# Altium footprint library DIY_DAP_PCB_Library.PcbLib: 17 footprints (part 1 of 2)
Each footprint in its own frame and in the unit in brackets; x right, y up, seen from the top. Pads: shape width x height; smd on the part's side, far side on the other; paste and mask are expansions set on the pad; w line width, h text height; cw(c..) or ccw(c..) is an arc to the next point about the centre after c.
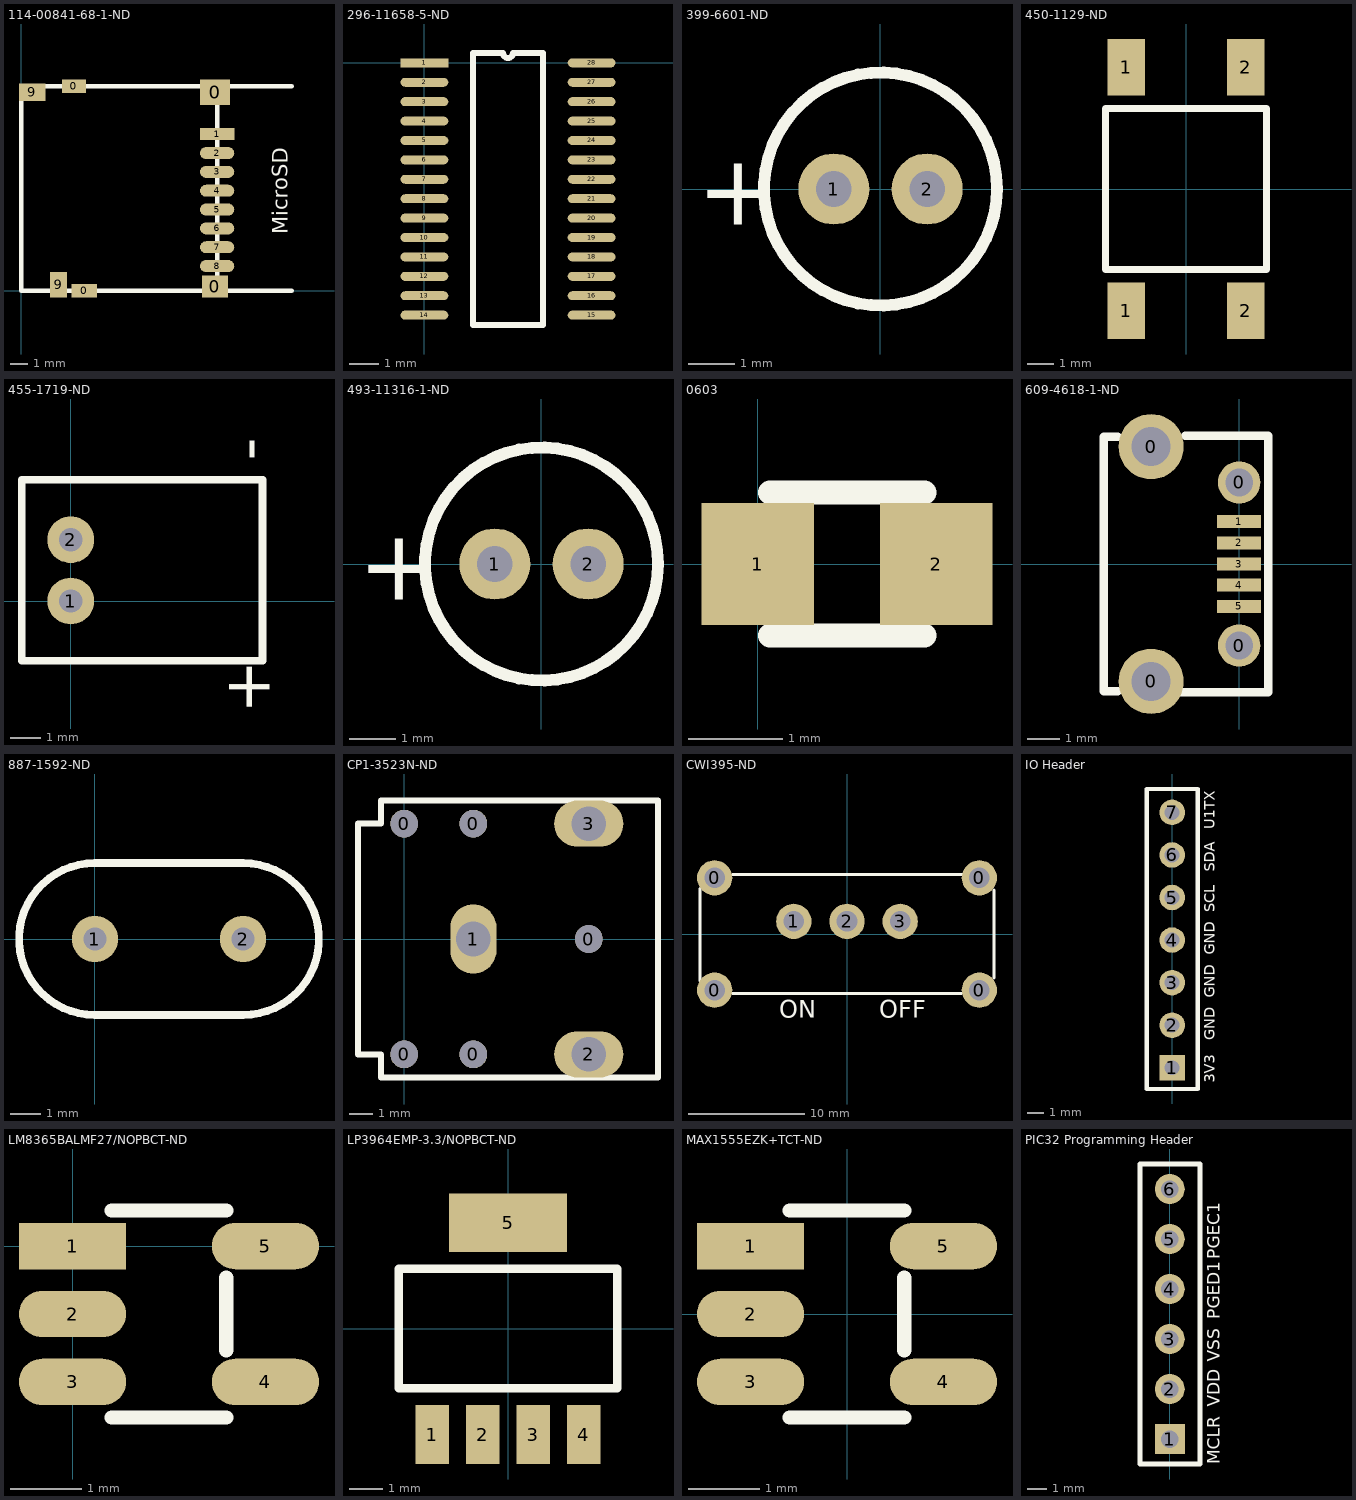
[diagram p0: the footprints below, top view; thin cyan lines are the x and y axes]

## 114-00841-68-1-ND [mm]
pads (14):
  rect 1.4x0.8 smd: 0(3.075,11.944)
  rect 1.5x0.8 smd: 0(3.684,-0.006)
  rect 1.5x1.3 smd: 0(11.323,0.244)
  rect 1.75x1.5 smd: 0(11.325,11.594)
  rect 2x0.7 smd: 1(11.45,9.144)
  oval 2x0.7 smd: 2(11.45,8.044) 3(11.45,6.944) 4(11.45,5.844) 5(11.45,4.744) 6(11.45,3.644) 7(11.45,2.544) 8(11.45,1.444)
  rect 1.55x1 smd: 9(0.65,11.594)
  rect 1x1.5 smd: 9(2.184,0.344)
Top Overlay:
  lines w0.254: 15.8,0 11.45,0 ; 15.8,11.95 11.45,11.95 ; 11.45,0 0,0 0,11.95 11.45,11.95 ; 11.45,0 11.45,11.95
  text "MicroSD" at 15.875,3.302 h1.52

## 296-11658-5-ND [mm]
pads (28):
  rect 1.6x0.3 smd: 1(0,0)
  oval 1.6x0.3 smd: 2(0,-0.65) 3(0,-1.3) 4(0,-1.95) 5(0,-2.6) 6(0,-3.25) 7(0,-3.9) 8(0,-4.55) 9(0,-5.2) 10(0,-5.85) 11(0,-6.5) 12(0,-7.15) 13(0,-7.8) 14(0,-8.45) 15(5.6,-8.45) 16(5.6,-7.8) 17(5.6,-7.15) 18(5.6,-6.5) 19(5.6,-5.85) 20(5.6,-5.2) 21(5.6,-4.55) 22(5.6,-3.9) 23(5.6,-3.25) 24(5.6,-2.6) 25(5.6,-1.95) 26(5.6,-1.3) 27(5.6,-0.65) 28(5.6,0)
Top Overlay:
  lines w0.2: 1.635,-8.775 3.965,-8.775 3.965,0.325 2.962,0.325 cw(c2.8,0.325) 2.638,0.325 1.635,0.325 1.635,-8.775

## 399-6601-ND [mil] "100 uF Capacitor"
pads (2):
  round 60 hole 30: 1(-39.37,0) 2(39.37,0)
Top Overlay:
  circle w10: c0,0 r98.43
  text "+" at -155,-30 h60

## 450-1129-ND [mm]
pads (4):
  rect 1.4x2.1 smd: 1(-2.23,-4.55) 1(-2.23,4.55) 2(2.23,-4.55) 2(2.23,4.55)
Top Overlay:
  lines w0.254: -3,2.921 -3,-3 3,-3 3,3 -3,3

## 455-1719-ND [mil]
pads (2):
  round 60 hole 30: 1(0,0) 2(0,78.74)
Top Overlay:
  lines w10: -62.99,-76.77 246.06,-76.77 246.06,155.51 -62.99,155.51 -62.99,-76.77
  text "-" at 255,180 h60
  text "+" at 255,-145 h60

## 493-11316-1-ND [mil] "47 uF Capacitor"
pads (2):
  round 60 hole 30: 1(-39.37,0) 2(39.37,0)
Top Overlay:
  circle w10: c0,0 r98.43
  text "+" at -155,-30 h60

## 0603 [mm]
pads (2):
  rect 1.2x1.3 smd: 1(0,0) 2(1.9,0)
Top Overlay:
  lines w0.254: 0.127,-0.762 1.778,-0.762 ; 0.127,0.762 1.778,0.762

## 609-4618-1-ND [mm]
pads (9):
  round 2 hole 1.2: 0(-2.7,-3.6) 0(-2.7,3.6)
  round 1.3 hole 0.85: 0(0,-2.5) 0(0,2.5)
  rect 1.35x0.4 smd: 1(0,1.3) 2(0,0.65) 3(0,0) 4(0,-0.65) 5(0,-1.3)
Top Overlay:
  lines w0.254: -3.72,-3.9 -4.15,-3.9 -4.15,3.9 -3.72,3.9 ; -1.778,-3.937 0.889,-3.937 0.889,3.937 -1.651,3.937

## 887-1592-ND [mil]
pads (2):
  round 60 hole 30: 1(0,0) 2(192.13,0)
Top Overlay:
  lines w10: 190.24,-98.43 0,-98.43 cw(c0,0) 0,98.43 190.24,98.43 ; 192.13,-98.43 ccw(c192.13,0) 192.13,98.43

## CP1-3523N-ND [mm]
pads (8):
  round 1.2 hole 1.2: 0(0,-5) 0(0,5) 0(3,-5) 0(3,5) 0(8,0)
  oval 2x3 hole 1.5: 1(3,0)
  oval 3x2 hole 1.5: 2(8,-5) 3(8,5)
Top Overlay:
  lines w0.254: -2,-5 -1,-5 -1,-6 11,-6 11,6 -1,6 -1,5 -2,5 -2,-5

## CWI395-ND [mil]
pads (7):
  round 120 hole 70: 0(-450,-191) 0(-450,191) 0(450,-191) 0(450,191) 1(-181,43) 2(0,43) 3(181,43)
Top Overlay:
  lines w10: -500,-160 -500,155 ; -390,-202 390,-202 ; -390,202 395,202 ; 500,-150 500,150
  text "OFF" at 110,-285 h60
  text "ON" at -230,-285 h60

## IO Header [mil]
pads (7):
  rect 60x60 hole 35: 1(0,-700)
  round 60 hole 35: 2(0,-600) 3(0,-500) 4(0,-400) 5(0,-300) 6(0,-200) 7(0,-100)
Top Overlay:
  lines w10: -60,-750 -60,-45 60,-45 60,-750 -60,-750
  text "GND" at 100,-435 h25
  text "GND" at 100,-535 h25
  text "3V3" at 100,-735 h25
  text "SCL" at 100,-335 h25
  text "GND" at 100,-635 h25
  text "SDA" at 100,-240 h25
  text "U1TX" at 100,-140 h25

## LM8365BALMF27/NOPBCT-ND [mm]
pads (5):
  rect 1.5x0.65 smd: 1(0,0)
  oval 1.5x0.65 smd: 2(0,-0.95) 3(0,-1.9) 4(2.7,-1.9) 5(2.7,0)
Top Overlay:
  lines w0.2: 0.55,-2.4 2.15,-2.4 ; 0.55,0.5 2.15,0.5 ; 2.15,-1.458 2.15,-0.442

## LP3964EMP-3.3/NOPBCT-ND [mm]
pads (5):
  rect 1x1.75 smd: 1(-2.25,-3.15) 2(-0.75,-3.15) 3(0.75,-3.15) 4(2.25,-3.15)
  rect 3.5x1.75 smd: 5(0,3.15)
Top Overlay:
  lines w0.254: -3.25,-1.778 -3.25,1.782 3.25,1.782 3.25,-1.778 -3.25,-1.778

## MAX1555EZK+TCT-ND [mm]
pads (5):
  rect 1.5x0.65 smd: 1(-1.35,0.95)
  oval 1.5x0.65 smd: 2(-1.35,0) 3(-1.35,-0.95) 4(1.35,-0.95) 5(1.35,0.95)
Top Overlay:
  lines w0.2: -0.8,-1.45 0.8,-1.45 ; -0.8,1.45 0.8,1.45 ; 0.8,-0.508 0.8,0.508

## PIC32 Programming Header [mil]
pads (6):
  rect 60x60 hole 35: 1(0,-700)
  round 60 hole 35: 2(0,-600) 3(0,-500) 4(0,-400) 5(0,-300) 6(0,-200)
Top Overlay:
  lines w10: -60,-750 60,-750 60,-150 -60,-150 -60,-750
  text "PGEC1" at 100,-340 h25
  text "VSS" at 100,-545 h25
  text "PGED1" at 100,-460 h25
  text "VDD" at 100,-635 h25
  text "MCLR" at 100,-750 h25